# EAGLE library part OLED_P91 (library wheat)
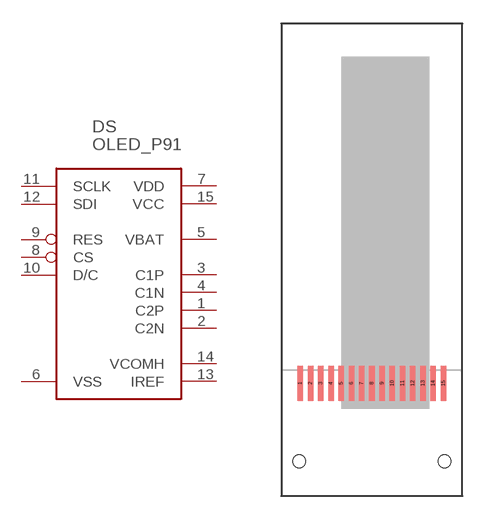
[diagram p202: symbol with the pads of OLED_P91; footprint OLED_P91]

Designator prefix DS

## OLED_P91  [OLED_P91]
1  C2P
2  C2N
3  C1P
4  C1N
5  VBAT
6  VSS
7  VDD
8  CS
9  RES
10  D/C
11  SCLK
12  SDI
13  IREF
14  VCOMH
15  VCC

## Footprint OLED_P91 (pad centres in mm)
smd 0.35 x 2.2: 1 -4.55,7.15; 2 -3.9,7.15; 3 -3.25,7.15; 4 -2.6,7.15; 5 -1.95,7.15; 6 -1.3,7.15; 7 -0.65,7.15; 8 0,7.15; 9 0.65,7.15; 10 1.3,7.15; 11 1.95,7.15; 12 2.6,7.15; 13 3.25,7.15; 14 3.9,7.15; 15 4.55,7.15
hole 0.8 at -4.625,2.2
hole 0.8 at 4.625,2.2